# Altium schematic symbol library 00-100001-001.SchLib: 2 symbols
Pins are listed as number, name and electrical type; pins without a type are passive.

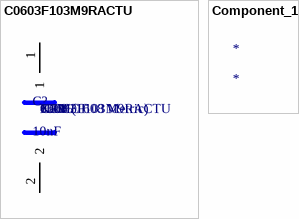
[diagram p0: symbols C0603F103M9RACTU to Component_1]

## C0603F103M9RACTU
designator C?, comment 10nF  Voltage: 6.3V  Tolerance: ±20%  Dielectric: X7R  Case: 0603 (1608 Metric)  Manufacturer: KEMET  Manufacturer Part Number: C0603F103M9RACTU
CAP CER 10000pF (10nF) 6.3V X7R 0603 ±20% - KEMET C0603F103M9RACTU; Value: 10nF
footprint CAPC1608X90N
pins: 1, 2

## Component_1
designator *